# Altium footprint library Footprint.PcbLib: 240 footprints (part 11 of 15)
Each footprint in its own frame and in the unit in brackets; x right, y up, seen from the top. Pads: shape width x height; smd on the part's side, far side on the other; paste and mask are expansions set on the pad; w line width, h text height; cw(c..) or ccw(c..) is an arc to the next point about the centre after c.
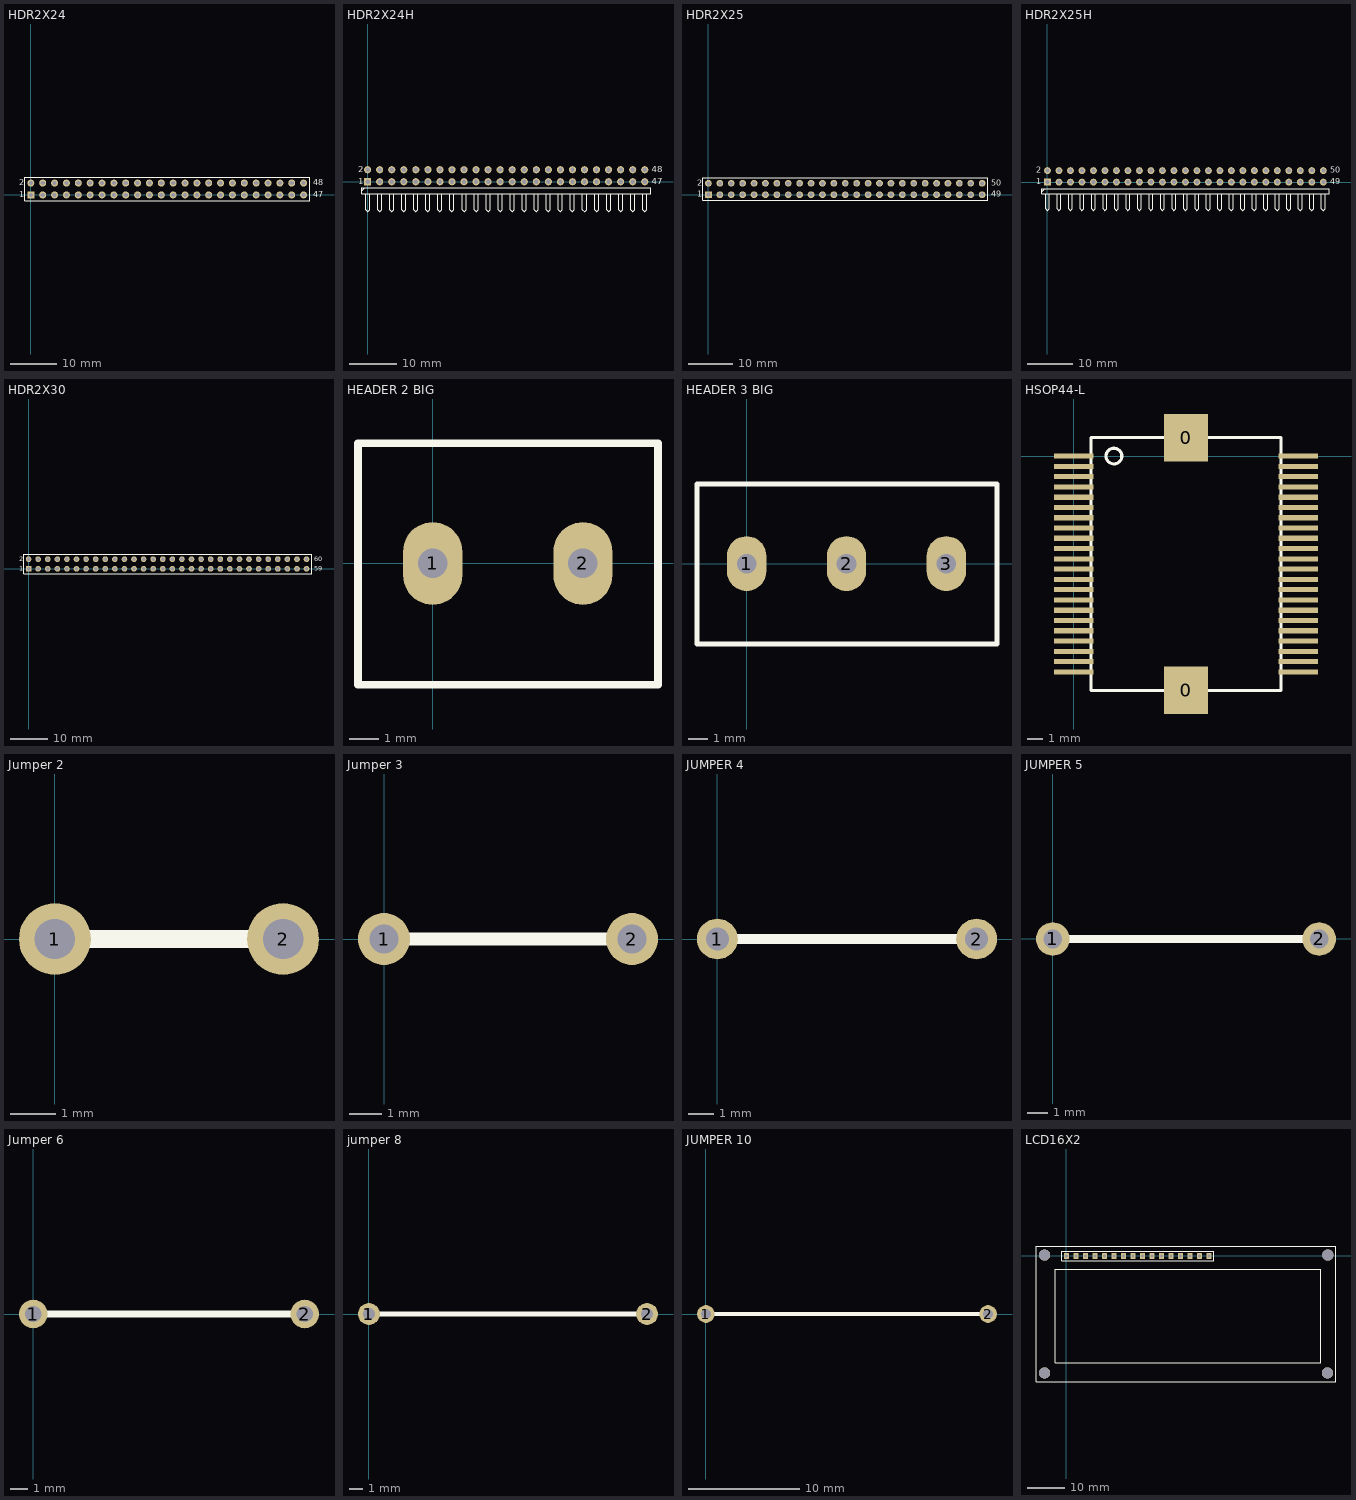
[diagram p10: the footprints below, top view; thin cyan lines are the x and y axes]

## HDR2X24 [mm] "Connector; Header; 24x2 Position"
pads (48):
  rect 1.5x1.5 hole 0.9: 1(0,0)
  round 1.5 hole 0.9: 2(0,2.54) 3(2.54,0) 4(2.54,2.54) 5(5.08,0) 6(5.08,2.54) 7(7.62,0) 8(7.62,2.54) 9(10.16,0) 10(10.16,2.54) 11(12.7,0) 12(12.7,2.54) 13(15.24,0) 14(15.24,2.54) 15(17.78,0) 16(17.78,2.54) 17(20.32,0) 18(20.32,2.54) 19(22.86,0) 20(22.86,2.54) 21(25.4,0) 22(25.4,2.54) 23(27.94,0) 24(27.94,2.54) 25(30.48,0) 26(30.48,2.54) 27(33.02,0) 28(33.02,2.54) 29(35.56,0) 30(35.56,2.54) 31(38.1,0) 32(38.1,2.54) 33(40.64,0) 34(40.64,2.54) 35(43.18,0) 36(43.18,2.54) 37(45.72,0) 38(45.72,2.54) 39(48.26,0) 40(48.26,2.54) 41(50.8,0) 42(50.8,2.54) 43(53.34,0) 44(53.34,2.54) 45(55.88,0) 46(55.88,2.54) 47(58.42,0) 48(58.42,2.54)
Top Overlay:
  lines w0.2: -1.27,-1.27 -1.27,3.81 59.69,3.81 59.69,-1.27 -1.27,-1.27
  text "47" at 60.452,-0.508 h1.27
  text "48" at 60.452,2.032 h1.27
  text "1" at -2.54,-0.508 h1.27
  text "2" at -2.54,2.032 h1.27
3D body: height 1.5, standoff 0, extent 26.67,-1.27 29.21,1.27
3D body: height 1.5, standoff 0, extent 26.67,1.27 29.21,3.81
3D body: height 1.5, standoff 0, extent 29.21,-1.27 31.75,1.27
3D body: height 1.5, standoff 0, extent 29.21,1.27 31.75,3.81
3D body: height 1.5, standoff 0, extent 31.75,-1.27 34.29,1.27
3D body: height 1.5, standoff 0, extent 31.75,1.27 34.29,3.81
3D body: height 1.5, standoff 0, extent 34.29,-1.27 36.83,1.27
3D body: height 1.5, standoff 0, extent 34.29,1.27 36.83,3.81
3D body: height 1.5, standoff 0, extent 36.83,-1.27 39.37,1.27
3D body: height 1.5, standoff 0, extent 36.83,1.27 39.37,3.81
3D body: height 1.5, standoff 0, extent 39.37,-1.27 41.91,1.27
3D body: height 1.5, standoff 0, extent 39.37,1.27 41.91,3.81
3D body: height 1.5, standoff 0, extent 41.91,-1.27 44.45,1.27
3D body: height 1.5, standoff 0, extent 41.91,1.27 44.45,3.81
3D body: height 1.5, standoff 0, extent 44.45,-1.27 46.99,1.27
3D body: height 1.5, standoff 0, extent 44.45,1.27 46.99,3.81
3D body: height 1.5, standoff 0, extent 46.99,-1.27 49.53,1.27
3D body: height 1.5, standoff 0, extent 46.99,1.27 49.53,3.81
3D body: height 1.5, standoff 0, extent 49.53,-1.27 52.07,1.27
3D body: height 1.5, standoff 0, extent 49.53,1.27 52.07,3.81
3D body: height 1.5, standoff 0, extent 52.07,-1.27 54.61,1.27
3D body: height 1.5, standoff 0, extent 52.07,1.27 54.61,3.81
3D body: height 1.5, standoff 0, extent -1.27,-1.27 1.27,1.27
3D body: height 1.5, standoff 0, extent -1.27,1.27 1.27,3.81
3D body: height 1.5, standoff 0, extent 1.27,-1.27 3.81,1.27
3D body: height 1.5, standoff 0, extent 1.27,1.27 3.81,3.81
3D body: height 1.5, standoff 0, extent 3.81,-1.27 6.35,1.27
3D body: height 1.5, standoff 0, extent 3.81,1.27 6.35,3.81
3D body: height 1.5, standoff 0, extent 6.35,-1.27 8.89,1.27
3D body: height 1.5, standoff 0, extent 6.35,1.27 8.89,3.81
3D body: height 1.5, standoff 0, extent 8.89,-1.27 11.43,1.27
3D body: height 1.5, standoff 0, extent 8.89,1.27 11.43,3.81
3D body: height 1.5, standoff 0, extent 11.43,-1.27 13.97,1.27
3D body: height 1.5, standoff 0, extent 11.43,1.27 13.97,3.81
3D body: height 1.5, standoff 0, extent 13.97,-1.27 16.51,1.27
3D body: height 1.5, standoff 0, extent 13.97,1.27 16.51,3.81
3D body: height 1.5, standoff 0, extent 16.51,-1.27 19.05,1.27
3D body: height 1.5, standoff 0, extent 16.51,1.27 19.05,3.81
3D body: height 1.5, standoff 0, extent 19.05,-1.27 21.59,1.27
3D body: height 1.5, standoff 0, extent 19.05,1.27 21.59,3.81
3D body: height 1.5, standoff 0, extent 21.59,-1.27 24.13,1.27
3D body: height 1.5, standoff 0, extent 21.59,1.27 24.13,3.81
3D body: height 1.5, standoff 0, extent 24.13,-1.27 26.67,1.27
3D body: height 1.5, standoff 0, extent 24.13,1.27 26.67,3.81
3D body: height 1.5, standoff 0, extent 57.15,1.27 59.69,3.81
3D body: height 1.5, standoff 0, extent 57.15,-1.27 59.69,1.27
3D body: height 1.5, standoff 0, extent 54.61,1.27 57.15,3.81
3D body: height 1.5, standoff 0, extent 54.61,-1.27 57.15,1.27

## HDR2X24H [mm] "Connector; Header; 24x2 Position; Right Angle"
pads (48):
  rect 1.5x1.5 hole 0.9: 1(0,0)
  round 1.5 hole 0.9: 2(0,2.54) 3(2.54,0) 4(2.54,2.54) 5(5.08,0) 6(5.08,2.54) 7(7.62,0) 8(7.62,2.54) 9(10.16,0) 10(10.16,2.54) 11(12.7,0) 12(12.7,2.54) 13(15.24,0) 14(15.24,2.54) 15(17.78,0) 16(17.78,2.54) 17(20.32,0) 18(20.32,2.54) 19(22.86,0) 20(22.86,2.54) 21(25.4,0) 22(25.4,2.54) 23(27.94,0) 24(27.94,2.54) 25(30.48,0) 26(30.48,2.54) 27(33.02,0) 28(33.02,2.54) 29(35.56,0) 30(35.56,2.54) 31(38.1,0) 32(38.1,2.54) 33(40.64,0) 34(40.64,2.54) 35(43.18,0) 36(43.18,2.54) 37(45.72,0) 38(45.72,2.54) 39(48.26,0) 40(48.26,2.54) 41(50.8,0) 42(50.8,2.54) 43(53.34,0) 44(53.34,2.54) 45(55.88,0) 46(55.88,2.54) 47(58.42,0) 48(58.42,2.54)
Top Overlay:
  lines w0.2: -1.27,-1.905 -0.635,-1.27 ; -0.423,-2.54 -0.423,-5.927 0,-6.35 0.423,-5.927 0.423,-2.54 ; 2.117,-2.54 2.117,-5.927 2.54,-6.35 2.963,-5.927 2.963,-2.54 ; 4.657,-2.54 4.657,-5.927 5.08,-6.35 5.503,-5.927 5.503,-2.54 ; 7.197,-2.54 7.197,-5.927 7.62,-6.35 8.043,-5.927 8.043,-2.54 ; 9.737,-2.54 9.737,-5.927 10.16,-6.35 10.583,-5.927 10.583,-2.54 ; 12.277,-2.54 12.277,-5.927 12.7,-6.35 13.123,-5.927 13.123,-2.54 ; 14.817,-2.54 14.817,-5.927 15.24,-6.35 15.663,-5.927 15.663,-2.54 ; 17.357,-2.54 17.357,-5.927 17.78,-6.35 18.203,-5.927 18.203,-2.54 ; 19.897,-2.54 19.897,-5.927 20.32,-6.35 20.743,-5.927 20.743,-2.54 ; 22.437,-2.54 22.437,-5.927 22.86,-6.35 23.283,-5.927 23.283,-2.54 ; 24.977,-2.54 24.977,-5.927 25.4,-6.35 25.823,-5.927 25.823,-2.54 ; 27.517,-2.54 27.517,-5.927 27.94,-6.35 28.363,-5.927 28.363,-2.54 ; 30.057,-2.54 30.057,-5.927 30.48,-6.35 30.903,-5.927 30.903,-2.54 ; 32.597,-2.54 32.597,-5.927 33.02,-6.35 33.443,-5.927 33.443,-2.54 ; 35.137,-2.54 35.137,-5.927 35.56,-6.35 35.983,-5.927 35.983,-2.54 ; 37.677,-2.54 37.677,-5.927 38.1,-6.35 38.523,-5.927 38.523,-2.54 ; 40.217,-2.54 40.217,-5.927 40.64,-6.35 41.063,-5.927 41.063,-2.54 ; 42.757,-2.54 42.757,-5.927 43.18,-6.35 43.603,-5.927 43.603,-2.54 ; 45.297,-2.54 45.297,-5.927 45.72,-6.35 46.143,-5.927 46.143,-2.54 ; 47.837,-2.54 47.837,-5.927 48.26,-6.35 48.683,-5.927 48.683,-2.54 ; 50.377,-2.54 50.377,-5.927 50.8,-6.35 51.223,-5.927 51.223,-2.54 ; 52.917,-2.54 52.917,-5.927 53.34,-6.35 53.763,-5.927 53.763,-2.54 ; 55.457,-2.54 55.457,-5.927 55.88,-6.35 56.303,-5.927 56.303,-2.54 ; 57.997,-2.54 57.997,-5.927 58.42,-6.35 58.843,-5.927 58.843,-2.54 ; -1.27,-2.54 59.69,-2.54 59.69,-1.27 -1.27,-1.27 -1.27,-2.54
  text "2" at -2.032,2.032 h1.27
  text "1" at -2.032,-0.508 h1.27
  text "47" at 59.944,-0.508 h1.27
  text "48" at 59.944,2.032 h1.27

## HDR2X25 [mm] "Connector; Header; 25x2 Position"
pads (50):
  rect 1.5x1.5 hole 0.9: 1(0,0)
  round 1.5 hole 0.9: 2(0,2.54) 3(2.54,0) 4(2.54,2.54) 5(5.08,0) 6(5.08,2.54) 7(7.62,0) 8(7.62,2.54) 9(10.16,0) 10(10.16,2.54) 11(12.7,0) 12(12.7,2.54) 13(15.24,0) 14(15.24,2.54) 15(17.78,0) 16(17.78,2.54) 17(20.32,0) 18(20.32,2.54) 19(22.86,0) 20(22.86,2.54) 21(25.4,0) 22(25.4,2.54) 23(27.94,0) 24(27.94,2.54) 25(30.48,0) 26(30.48,2.54) 27(33.02,0) 28(33.02,2.54) 29(35.56,0) 30(35.56,2.54) 31(38.1,0) 32(38.1,2.54) 33(40.64,0) 34(40.64,2.54) 35(43.18,0) 36(43.18,2.54) 37(45.72,0) 38(45.72,2.54) 39(48.26,0) 40(48.26,2.54) 41(50.8,0) 42(50.8,2.54) 43(53.34,0) 44(53.34,2.54) 45(55.88,0) 46(55.88,2.54) 47(58.42,0) 48(58.42,2.54) 49(60.96,0) 50(60.96,2.54)
Top Overlay:
  lines w0.2: -1.27,-1.27 -1.27,3.81 62.23,3.81 62.23,-1.27 -1.27,-1.27
  text "2" at -2.54,2.032 h1.27
  text "1" at -2.54,-0.508 h1.27
  text "49" at 62.992,-0.508 h1.27
  text "50" at 62.992,2.032 h1.27
3D body: height 1.5, standoff 0, extent 54.61,-1.27 57.15,1.27
3D body: height 1.5, standoff 0, extent 54.61,1.27 57.15,3.81
3D body: height 1.5, standoff 0, extent 57.15,-1.27 59.69,1.27
3D body: height 1.5, standoff 0, extent 57.15,1.27 59.69,3.81
3D body: height 1.5, standoff 0, extent 59.69,-1.27 62.23,1.27
3D body: height 1.5, standoff 0, extent 59.69,1.27 62.23,3.81
3D body: height 1.5, standoff 0, extent 26.67,-1.27 29.21,1.27
3D body: height 1.5, standoff 0, extent 26.67,1.27 29.21,3.81
3D body: height 1.5, standoff 0, extent 29.21,-1.27 31.75,1.27
3D body: height 1.5, standoff 0, extent 29.21,1.27 31.75,3.81
3D body: height 1.5, standoff 0, extent 31.75,-1.27 34.29,1.27
3D body: height 1.5, standoff 0, extent 31.75,1.27 34.29,3.81
3D body: height 1.5, standoff 0, extent 34.29,-1.27 36.83,1.27
3D body: height 1.5, standoff 0, extent 34.29,1.27 36.83,3.81
3D body: height 1.5, standoff 0, extent 36.83,-1.27 39.37,1.27
3D body: height 1.5, standoff 0, extent 36.83,1.27 39.37,3.81
3D body: height 1.5, standoff 0, extent 39.37,-1.27 41.91,1.27
3D body: height 1.5, standoff 0, extent 39.37,1.27 41.91,3.81
3D body: height 1.5, standoff 0, extent 41.91,-1.27 44.45,1.27
3D body: height 1.5, standoff 0, extent 41.91,1.27 44.45,3.81
3D body: height 1.5, standoff 0, extent 44.45,-1.27 46.99,1.27
3D body: height 1.5, standoff 0, extent 44.45,1.27 46.99,3.81
3D body: height 1.5, standoff 0, extent 46.99,-1.27 49.53,1.27
3D body: height 1.5, standoff 0, extent 46.99,1.27 49.53,3.81
3D body: height 1.5, standoff 0, extent 49.53,-1.27 52.07,1.27
3D body: height 1.5, standoff 0, extent 49.53,1.27 52.07,3.81
3D body: height 1.5, standoff 0, extent 52.07,-1.27 54.61,1.27
3D body: height 1.5, standoff 0, extent 52.07,1.27 54.61,3.81
3D body: height 1.5, standoff 0, extent -1.27,-1.27 1.27,1.27
3D body: height 1.5, standoff 0, extent -1.27,1.27 1.27,3.81
3D body: height 1.5, standoff 0, extent 1.27,-1.27 3.81,1.27
3D body: height 1.5, standoff 0, extent 1.27,1.27 3.81,3.81
3D body: height 1.5, standoff 0, extent 3.81,-1.27 6.35,1.27
3D body: height 1.5, standoff 0, extent 3.81,1.27 6.35,3.81
3D body: height 1.5, standoff 0, extent 6.35,-1.27 8.89,1.27
3D body: height 1.5, standoff 0, extent 6.35,1.27 8.89,3.81
3D body: height 1.5, standoff 0, extent 8.89,-1.27 11.43,1.27
3D body: height 1.5, standoff 0, extent 8.89,1.27 11.43,3.81
3D body: height 1.5, standoff 0, extent 11.43,-1.27 13.97,1.27
3D body: height 1.5, standoff 0, extent 11.43,1.27 13.97,3.81
3D body: height 1.5, standoff 0, extent 13.97,-1.27 16.51,1.27
3D body: height 1.5, standoff 0, extent 13.97,1.27 16.51,3.81
3D body: height 1.5, standoff 0, extent 16.51,-1.27 19.05,1.27
3D body: height 1.5, standoff 0, extent 16.51,1.27 19.05,3.81
3D body: height 1.5, standoff 0, extent 19.05,-1.27 21.59,1.27
3D body: height 1.5, standoff 0, extent 19.05,1.27 21.59,3.81
3D body: height 1.5, standoff 0, extent 21.59,-1.27 24.13,1.27
3D body: height 1.5, standoff 0, extent 21.59,1.27 24.13,3.81
3D body: height 1.5, standoff 0, extent 24.13,-1.27 26.67,1.27
3D body: height 1.5, standoff 0, extent 24.13,1.27 26.67,3.81

## HDR2X25H [mm] "Connector; Header; 25x2 Position; Right Angle"
pads (50):
  rect 1.5x1.5 hole 0.9: 1(0,0)
  round 1.5 hole 0.9: 2(0,2.54) 3(2.54,0) 4(2.54,2.54) 5(5.08,0) 6(5.08,2.54) 7(7.62,0) 8(7.62,2.54) 9(10.16,0) 10(10.16,2.54) 11(12.7,0) 12(12.7,2.54) 13(15.24,0) 14(15.24,2.54) 15(17.78,0) 16(17.78,2.54) 17(20.32,0) 18(20.32,2.54) 19(22.86,0) 20(22.86,2.54) 21(25.4,0) 22(25.4,2.54) 23(27.94,0) 24(27.94,2.54) 25(30.48,0) 26(30.48,2.54) 27(33.02,0) 28(33.02,2.54) 29(35.56,0) 30(35.56,2.54) 31(38.1,0) 32(38.1,2.54) 33(40.64,0) 34(40.64,2.54) 35(43.18,0) 36(43.18,2.54) 37(45.72,0) 38(45.72,2.54) 39(48.26,0) 40(48.26,2.54) 41(50.8,0) 42(50.8,2.54) 43(53.34,0) 44(53.34,2.54) 45(55.88,0) 46(55.88,2.54) 47(58.42,0) 48(58.42,2.54) 49(60.96,0) 50(60.96,2.54)
Top Overlay:
  lines w0.2: -1.27,-2.117 -0.635,-1.482 ; -0.423,-2.54 -0.423,-5.927 0,-6.35 0.423,-5.927 0.423,-2.54 ; 2.117,-2.54 2.117,-5.927 2.54,-6.35 2.963,-5.927 2.963,-2.54 ; 4.657,-2.54 4.657,-5.927 5.08,-6.35 5.503,-5.927 5.503,-2.54 ; 7.197,-2.54 7.197,-5.927 7.62,-6.35 8.043,-5.927 8.043,-2.54 ; 9.737,-2.54 9.737,-5.927 10.16,-6.35 10.583,-5.927 10.583,-2.54 ; 12.277,-2.54 12.277,-5.927 12.7,-6.35 13.123,-5.927 13.123,-2.54 ; 14.817,-2.54 14.817,-5.927 15.24,-6.35 15.663,-5.927 15.663,-2.54 ; 17.357,-2.54 17.357,-5.927 17.78,-6.35 18.203,-5.927 18.203,-2.54 ; 19.897,-2.54 19.897,-5.927 20.32,-6.35 20.743,-5.927 20.743,-2.54 ; 22.437,-2.54 22.437,-5.927 22.86,-6.35 23.283,-5.927 23.283,-2.54 ; 24.977,-2.54 24.977,-5.927 25.4,-6.35 25.823,-5.927 25.823,-2.54 ; 27.517,-2.54 27.517,-5.927 27.94,-6.35 28.363,-5.927 28.363,-2.54 ; 30.057,-2.54 30.057,-5.927 30.48,-6.35 30.903,-5.927 30.903,-2.54 ; 32.597,-2.54 32.597,-5.927 33.02,-6.35 33.443,-5.927 33.443,-2.54 ; 35.137,-2.54 35.137,-5.927 35.56,-6.35 35.983,-5.927 35.983,-2.54 ; 37.677,-2.54 37.677,-5.927 38.1,-6.35 38.523,-5.927 38.523,-2.54 ; 40.217,-2.54 40.217,-5.927 40.64,-6.35 41.063,-5.927 41.063,-2.54 ; 42.757,-2.54 42.757,-5.927 43.18,-6.35 43.603,-5.927 43.603,-2.54 ; 45.297,-2.54 45.297,-5.927 45.72,-6.35 46.143,-5.927 46.143,-2.54 ; 47.837,-2.54 47.837,-5.927 48.26,-6.35 48.683,-5.927 48.683,-2.54 ; 50.377,-2.54 50.377,-5.927 50.8,-6.35 51.223,-5.927 51.223,-2.54 ; 52.917,-2.54 52.917,-5.927 53.34,-6.35 53.763,-5.927 53.763,-2.54 ; 55.457,-2.54 55.457,-5.927 55.88,-6.35 56.303,-5.927 56.303,-2.54 ; 57.997,-2.54 57.997,-5.927 58.42,-6.35 58.843,-5.927 58.843,-2.54 ; 60.537,-2.54 60.537,-5.927 60.96,-6.35 61.383,-5.927 61.383,-2.54 ; -1.27,-2.54 -1.27,-1.482 62.23,-1.482 62.23,-2.54 -1.27,-2.54
  text "2" at -2.54,2.032 h1.27
  text "1" at -2.54,-0.508 h1.27
  text "49" at 62.484,-0.508 h1.27
  text "50" at 62.484,2.032 h1.27

## HDR2X30 [mm] "Connector; Header; 30x2 Position"
pads (60):
  rect 1.5x1.5 hole 0.9: 1(0,0)
  round 1.5 hole 0.9: 2(0,2.54) 3(2.54,0) 4(2.54,2.54) 5(5.08,0) 6(5.08,2.54) 7(7.62,0) 8(7.62,2.54) 9(10.16,0) 10(10.16,2.54) 11(12.7,0) 12(12.7,2.54) 13(15.24,0) 14(15.24,2.54) 15(17.78,0) 16(17.78,2.54) 17(20.32,0) 18(20.32,2.54) 19(22.86,0) 20(22.86,2.54) 21(25.4,0) 22(25.4,2.54) 23(27.94,0) 24(27.94,2.54) 25(30.48,0) 26(30.48,2.54) 27(33.02,0) 28(33.02,2.54) 29(35.56,0) 30(35.56,2.54) 31(38.1,0) 32(38.1,2.54) 33(40.64,0) 34(40.64,2.54) 35(43.18,0) 36(43.18,2.54) 37(45.72,0) 38(45.72,2.54) 39(48.26,0) 40(48.26,2.54) 41(50.8,0) 42(50.8,2.54) 43(53.34,0) 44(53.34,2.54) 45(55.88,0) 46(55.88,2.54) 47(58.42,0) 48(58.42,2.54) 49(60.96,0) 50(60.96,2.54) 51(63.5,0) 52(63.5,2.54) 53(66.04,0) 54(66.04,2.54) 55(68.58,0) 56(68.58,2.54) 57(71.12,0) 58(71.12,2.54) 59(73.66,0) 60(73.66,2.54)
Top Overlay:
  lines w0.2: -1.27,-1.27 75.06,-1.27 75.06,3.81 -1.27,3.81 -1.27,-1.27
  text "60" at 75.692,2.032 h1.27
  text "59" at 75.692,-0.508 h1.27
  text "1" at -2.54,-0.508 h1.27
  text "2" at -2.54,2.032 h1.27
Bottom Overlay:
  text "1" at -55.88,-0.508 h1.27
3D body: height 1.5, standoff 0, extent 54.61,-1.27 57.15,1.27
3D body: height 1.5, standoff 0, extent 54.61,1.27 57.15,3.81
3D body: height 1.5, standoff 0, extent 57.15,-1.27 59.69,1.27
3D body: height 1.5, standoff 0, extent 57.15,1.27 59.69,3.81
3D body: height 1.5, standoff 0, extent 59.69,-1.27 62.23,1.27
3D body: height 1.5, standoff 0, extent 59.69,1.27 62.23,3.81
3D body: height 1.5, standoff 0, extent 62.23,-1.27 64.77,1.27
3D body: height 1.5, standoff 0, extent 62.23,1.27 64.77,3.81
3D body: height 1.5, standoff 0, extent 64.77,-1.27 67.31,1.27
3D body: height 1.5, standoff 0, extent 64.77,1.27 67.31,3.81
3D body: height 1.5, standoff 0, extent 67.31,-1.27 69.85,1.27
3D body: height 1.5, standoff 0, extent 67.31,1.27 69.85,3.81
3D body: height 1.5, standoff 0, extent 69.85,-1.27 72.39,1.27
3D body: height 1.5, standoff 0, extent 69.85,1.27 72.39,3.81
3D body: height 1.5, standoff 0, extent 72.39,-1.27 74.93,1.27
3D body: height 1.5, standoff 0, extent 72.39,1.27 74.93,3.81
3D body: height 1.5, standoff 0, extent 26.67,-1.27 29.21,1.27
3D body: height 1.5, standoff 0, extent 26.67,1.27 29.21,3.81
3D body: height 1.5, standoff 0, extent 29.21,-1.27 31.75,1.27
3D body: height 1.5, standoff 0, extent 29.21,1.27 31.75,3.81
3D body: height 1.5, standoff 0, extent 31.75,-1.27 34.29,1.27
3D body: height 1.5, standoff 0, extent 31.75,1.27 34.29,3.81
3D body: height 1.5, standoff 0, extent 34.29,-1.27 36.83,1.27
3D body: height 1.5, standoff 0, extent 34.29,1.27 36.83,3.81
3D body: height 1.5, standoff 0, extent 36.83,-1.27 39.37,1.27
3D body: height 1.5, standoff 0, extent 36.83,1.27 39.37,3.81
3D body: height 1.5, standoff 0, extent 39.37,-1.27 41.91,1.27
3D body: height 1.5, standoff 0, extent 39.37,1.27 41.91,3.81
3D body: height 1.5, standoff 0, extent 41.91,-1.27 44.45,1.27
3D body: height 1.5, standoff 0, extent 41.91,1.27 44.45,3.81
3D body: height 1.5, standoff 0, extent 44.45,-1.27 46.99,1.27
3D body: height 1.5, standoff 0, extent 44.45,1.27 46.99,3.81
3D body: height 1.5, standoff 0, extent 46.99,-1.27 49.53,1.27
3D body: height 1.5, standoff 0, extent 46.99,1.27 49.53,3.81
3D body: height 1.5, standoff 0, extent 49.53,-1.27 52.07,1.27
3D body: height 1.5, standoff 0, extent 49.53,1.27 52.07,3.81
3D body: height 1.5, standoff 0, extent 52.07,-1.27 54.61,1.27
3D body: height 1.5, standoff 0, extent 52.07,1.27 54.61,3.81
3D body: height 1.5, standoff 0, extent -1.27,-1.27 1.27,1.27
3D body: height 1.5, standoff 0, extent -1.27,1.27 1.27,3.81
3D body: height 1.5, standoff 0, extent 1.27,-1.27 3.81,1.27
3D body: height 1.5, standoff 0, extent 1.27,1.27 3.81,3.81
3D body: height 1.5, standoff 0, extent 3.81,-1.27 6.35,1.27
3D body: height 1.5, standoff 0, extent 3.81,1.27 6.35,3.81
3D body: height 1.5, standoff 0, extent 6.35,-1.27 8.89,1.27
3D body: height 1.5, standoff 0, extent 6.35,1.27 8.89,3.81
3D body: height 1.5, standoff 0, extent 8.89,-1.27 11.43,1.27
3D body: height 1.5, standoff 0, extent 8.89,1.27 11.43,3.81
3D body: height 1.5, standoff 0, extent 11.43,-1.27 13.97,1.27
3D body: height 1.5, standoff 0, extent 11.43,1.27 13.97,3.81
3D body: height 1.5, standoff 0, extent 13.97,-1.27 16.51,1.27
3D body: height 1.5, standoff 0, extent 13.97,1.27 16.51,3.81
3D body: height 1.5, standoff 0, extent 16.51,-1.27 19.05,1.27
3D body: height 1.5, standoff 0, extent 16.51,1.27 19.05,3.81
3D body: height 1.5, standoff 0, extent 19.05,-1.27 21.59,1.27
3D body: height 1.5, standoff 0, extent 19.05,1.27 21.59,3.81
3D body: height 1.5, standoff 0, extent 21.59,-1.27 24.13,1.27
3D body: height 1.5, standoff 0, extent 21.59,1.27 24.13,3.81
3D body: height 1.5, standoff 0, extent 24.13,-1.27 26.67,1.27
3D body: height 1.5, standoff 0, extent 24.13,1.27 26.67,3.81

## HEADER 2 BIG [mm]
pads (2):
  oval 2x2.8 hole 1: 1(0,0) 2(5.08,0)
Top Overlay:
  lines w0.254: -2.527,-4.102 -2.527,4.064 7.62,4.064 7.62,-4.102 -2.527,-4.102

## HEADER 3 BIG [mm]
pads (3):
  oval 2x2.8 hole 1: 1(0,0) 2(5.08,0) 3(10.16,0)
Top Overlay:
  lines w0.254: -2.527,-4.102 -2.527,4.064 12.738,4.064 12.738,-4.102 -2.527,-4.102

## HSOP44-L [mm]
pads (46):
  rect 2.8x3 smd: 0(7.1,-14.815) 0(7.1,1.162)
  rect 2.5x0.325 smd: 1(0,0) 2(0,-0.65) 3(0,-1.3) 4(0,-1.95) 5(0,-2.6) 6(0,-3.25) 7(0,-3.9) 8(0,-4.55) 9(0,-5.2) 10(0,-5.85) 11(0,-6.5) 12(0,-7.15) 13(0,-7.8) 14(0,-8.45) 15(0,-9.1) 16(0,-9.75) 17(0,-10.4) 18(0,-11.05) 19(0,-11.7) 20(0,-12.35) 21(0,-13) 22(0,-13.65) 23(14.2,-13.65) 24(14.2,-13) 25(14.2,-12.35) 26(14.2,-11.7) 27(14.2,-11.05) 28(14.2,-10.4) 29(14.2,-9.75) 30(14.2,-9.1) 31(14.2,-8.45) 32(14.2,-7.8) 33(14.2,-7.15) 34(14.2,-6.5) 35(14.2,-5.85) 36(14.2,-5.2) 37(14.2,-4.55) 38(14.2,-3.9) 39(14.2,-3.25) 40(14.2,-2.6) 41(14.2,-1.95) 42(14.2,-1.3) 43(14.2,-0.65) 44(14.2,0)
Top Overlay:
  circle w0.2: c2.54,0 r0.5
  lines w0.2: 1.1,-14.825 1.1,1.175 13.1,1.175 13.1,-14.825 1.1,-14.825

## Jumper 2 [mm]
pads (2):
  round 1.6 hole 0.9: 1(0,0) 2(5.08,0)
Top Overlay:
  lines w0.4: 0,0 5.08,0

## Jumper 3 [mm]
pads (2):
  round 1.6 hole 0.9: 1(0,0) 2(7.62,0)
Top Overlay:
  lines w0.4: 0,0 7.62,0

## JUMPER 4 [mm]
pads (2):
  round 1.6 hole 0.9: 1(0,0) 2(10.16,0)
Top Overlay:
  lines w0.4: 0,0 10.16,0

## JUMPER 5 [mm]
pads (2):
  round 1.6 hole 0.9: 1(0,0) 2(12.7,0)
Top Overlay:
  lines w0.4: 0,0 12.7,0

## Jumper 6 [mm]
pads (2):
  round 1.6 hole 0.9: 1(0,0) 2(15.24,0)
Top Overlay:
  lines w0.4: 0,0 15.24,0

## jumper 8 [mm]
pads (2):
  round 1.6 hole 0.9: 1(0,0) 2(20.32,0)
Top Overlay:
  lines w0.4: 0,0 20.32,0

## JUMPER 10 [mm]
pads (2):
  round 1.6 hole 0.9: 1(0,0) 2(25.4,0)
Top Overlay:
  lines w0.4: 0,0 25.4,0

## LCD16X2 [mm] "LCD 16x2"
pads (20):
  rect 1.3x1.6 hole 0.9: 1(0,0) 2(2.54,0) 3(5.08,0) 4(7.62,0) 5(10.16,0) 6(12.7,0) 7(15.24,0) 8(17.78,0) 9(20.32,0) 10(22.86,0) 11(25.4,0) 12(27.94,0) 13(30.48,0) 14(33.02,0) 15(35.56,0) 16(38.1,0)
  round 3 hole 3: ""(-5.842,-31.242) ""(69.723,-31.242)
  round 3 hole 3 paste+0 mask+0: ""(-5.842,0.254) ""(69.825,0.254)
Top Overlay:
  lines w0.2: -1.27,-1.27 -1.27,1.27 0.635,1.27 39.37,1.27 39.37,-1.27 -1.27,-1.27
  lines w0.254: 71.882,-33.528 -8.128,-33.528 -8.128,2.54 71.882,2.54 ; 72.009,-33.528 72.009,2.54 ; -3.001,-28.528 67.999,-28.528 67.999,-3.528 -3.001,-3.528 -3.001,-28.528
3D body: height 19, standoff 5.1, extent -8,-33.5 72,2.5
3D body: height 7, standoff -1, extent 37.694,-0.406 38.49,0.392
3D body: height 1.5, standoff 0, extent 36.83,-1.27 39.37,1.27
3D body: height 7, standoff -1, extent 24.994,-0.406 25.79,0.392
3D body: height 1.5, standoff 0, extent 24.13,-1.27 26.67,1.27
3D body: height 7, standoff -1, extent 27.534,-0.406 28.33,0.392
3D body: height 1.5, standoff 0, extent 26.67,-1.27 29.21,1.27
3D body: height 7, standoff -1, extent 30.074,-0.406 30.87,0.392
3D body: height 1.5, standoff 0, extent 29.21,-1.27 31.75,1.27
3D body: height 7, standoff -1, extent 32.614,-0.406 33.41,0.392
3D body: height 1.5, standoff 0, extent 31.75,-1.27 34.29,1.27
3D body: height 7, standoff -1, extent 35.154,-0.406 35.95,0.392
3D body: height 1.5, standoff 0, extent 34.29,-1.27 36.83,1.27
3D body: height 7, standoff -1, extent 12.294,-0.406 13.09,0.392
3D body: height 1.5, standoff 0, extent 11.43,-1.27 13.97,1.27
3D body: height 7, standoff -1, extent 14.834,-0.406 15.63,0.392
3D body: height 1.5, standoff 0, extent 13.97,-1.27 16.51,1.27
3D body: height 7, standoff -1, extent 17.374,-0.406 18.17,0.392
3D body: height 1.5, standoff 0, extent 16.51,-1.27 19.05,1.27
3D body: height 7, standoff -1, extent 19.914,-0.406 20.71,0.392
3D body: height 1.5, standoff 0, extent 19.05,-1.27 21.59,1.27
3D body: height 7, standoff -1, extent 22.454,-0.406 23.25,0.392
3D body: height 1.5, standoff 0, extent 21.59,-1.27 24.13,1.27
3D body: height 7, standoff -1, extent -0.406,-0.406 0.39,0.392
3D body: height 1.5, standoff 0, extent -1.27,-1.27 1.27,1.27
3D body: height 7, standoff -1, extent 2.134,-0.406 2.93,0.392
3D body: height 1.5, standoff 0, extent 1.27,-1.27 3.81,1.27
3D body: height 7, standoff -1, extent 4.674,-0.406 5.47,0.392
3D body: height 1.5, standoff 0, extent 3.81,-1.27 6.35,1.27
3D body: height 7, standoff -1, extent 7.214,-0.406 8.01,0.392
3D body: height 1.5, standoff 0, extent 6.35,-1.27 8.89,1.27
3D body: height 7, standoff -1, extent 9.754,-0.406 10.55,0.392
3D body: height 1.5, standoff 0, extent 8.89,-1.27 11.43,1.27